# EAGLE library part 653006114822 (library Wuerth_Elektronik_eiCan_Wire_to_Board_Connectors v1.2)
WR-WTB 1.25mm Male Vertical Shrouded Header,6 Pins
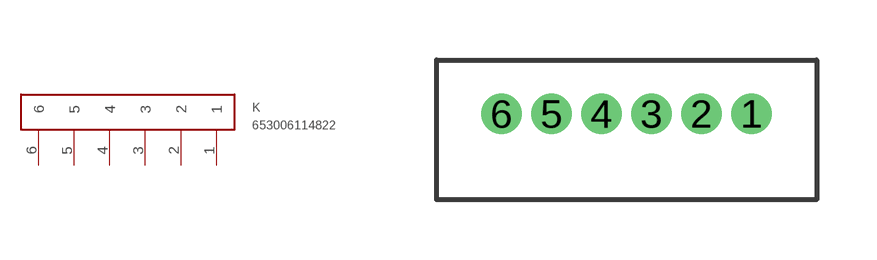
[diagram p81: symbol with the pads of 653006114822; footprint 653006114822]

Designator prefix K

## 653006114822  [653006114822]
1  1
2  2
3  3
4  4
5  5
6  6

## Footprint 653006114822 (pad centres in mm)
WR-WTB 1.25mm Male Vertical Shrouded Header, 6 Pins
drill 0.5 round: 1 0.625,0; 2 -0.625,0; 3 -1.875,0; 4 -3.125,0; 5 -4.375,0; 6 -5.625,0